# EAGLE library part HC-05 (library VFD-Clock)
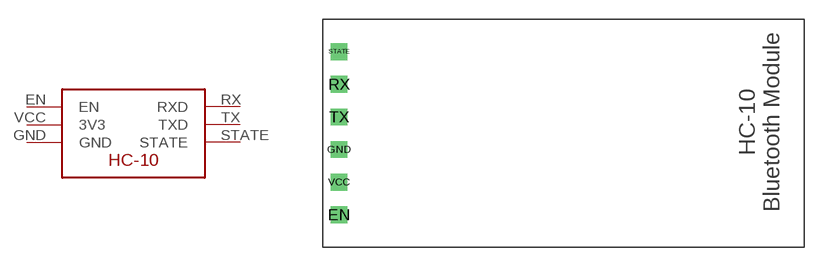
[diagram p1: symbol with the pads of HC-05; footprint HC-05]

Designator prefix -

## HC-05  [HC-05]
EN  EN
GND  GND
RX  RXD
STATE  STATE
TX  TXD
VCC  3V3

## Footprint HC-05 (pad centres in mm)
drill 0.8 square: EN 1.27,2.54; GND 1.27,7.62; RX 1.27,12.7; STATE 1.27,15.24; TX 1.27,10.16; VCC 1.27,5.08